# EAGLE library part BRD_CONN_SMD_2MM_16 (library alvie)
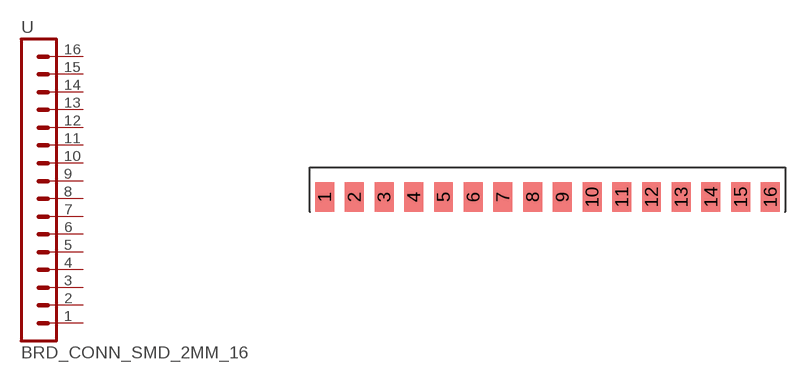
[diagram p55: symbol with the pads of B2B_SMD_16; footprint B2B_SMD_16]

Designator prefix -

## BRD_CONN_SMD_2MM_16  [B2B_SMD_16]
1  1  pas
2  2  pas
3  3  pas
4  4  pas
5  5  pas
6  6  pas
7  7  pas
8  8  pas
9  9  pas
10  10  pas
11  11  pas
12  12  pas
13  13  pas
14  14  pas
15  15  pas
16  16  pas

## Footprint B2B_SMD_16 (pad centres in mm)
smd 1.27 x 2: 1 -15,0; 2 -13,0; 3 -11,0; 4 -9,0; 5 -7,0; 6 -5,0; 7 -3,0; 8 -1,0; 9 1,0; 10 3,0; 11 5,0; 12 7,0; 13 9,0; 14 11,0; 15 13,0; 16 15,0